# Altium schematic symbol library sym-0030.SchLib: 1 symbol
Pins are listed as number, name and electrical type; pins without a type are passive.

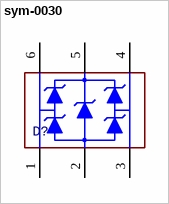
[diagram p0: symbol sym-0030]

## sym-0030
designator D?
SOT23-6 2-Line TVS ESD
pins: 1, 2, 3, 4, 5, 6
2 alternate drawings of the same symbol